# EAGLE library part SWITCH_3-STATE_8-PIN (library Inventory)
3 State Switch, 6 Pin A switch with three states: State 1, Off, and State 2. Key: S1C: Side 1, Common S1S1: Side 1, State 1 S1S2: Side 1, State 2 . S2C: Side 2, Common S2S1: Side 2, State 1 S2S2: Side 2, State 2 When the switch is in State 1: S1C connects to S1S1, S1S2 remains disconnected. S2C connects to S2S1, S2S2 remains disconnected. When the switch is in State Off: S1C, S1S1, and S1S2 are all disconnected. S2C, S2S1, and S2S2 are all disconnected. When the switch is in State 2: S1C connects to S1S2, S1S1 remains disconnected. S2C connects to S2S2, S2S1 remains disconnected. S1C does not connect to S2C. S1S1 does not connect to S2S1. S1S2 does not connect to S2S2.
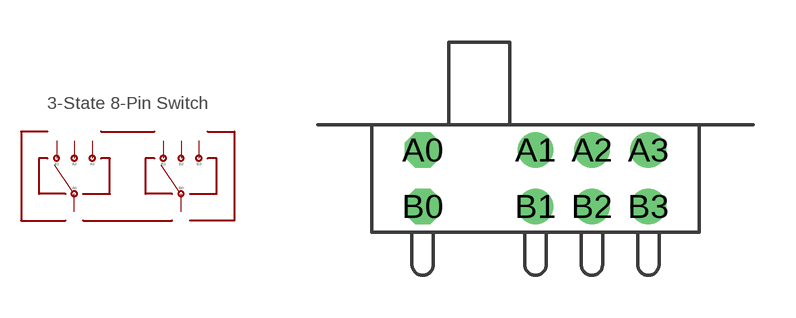
[diagram p6: symbol with the pads of SWITCH_3-STATE_8-PIN_TH; footprint SWITCH_3-STATE_8-PIN_TH]

Designator prefix -

## SWITCH_3-STATE_8-PIN  [SWITCH_3-STATE_8-PIN_TH]
A0  A0  pas
A1  A1  pas
A2  A2  pas
A3  A3  pas
B0  B0  pas
B1  B1  pas
B2  B2  pas
B3  B3  pas

## Footprint SWITCH_3-STATE_8-PIN_TH (pad centres in mm)
3 State Switch, 8 Pin A switch with three states: State 1, Off, and State 2. Key: A0: Side A, Common A1: Side A, State 1 A2: Side A, State 2 A3: Side A, State 3 B0: Side B, Common B1: Side B, State 1 B2: Side B, State 2 B3: Side B, State 3 When the switch is in State 1: A1 connects to A0, A2 and A3 remain disconnected. B1 connects to B0, B2 and B3 remain disconnected. When the switch is in State 2: A2 connects to A0, A1 and A3 remain disconnected. B2 connects to B0, B1 and B3 remain disconnected. When the switch is in State 3: A3 connects to A0, A1 and A2 remain disconnected. B3 connects to B0, B1 and B2 remain disconnected. A0 does not connect to B0. S1S1 does not connect to S2S1. S1S2 does not connect to S2S2.
drill 0.65 pad 1.27 octagon: A0 -8,7; B0 -8,5
drill 0.65 pad 1.27: A1 -4,7; A2 -2,7; A3 0,7; B1 -4,5; B2 -2,5; B3 0,5